# EAGLE library part LED-ARRAY-RTZ-2041 (library 1A-meinLib)
LED Array Typ RTZ 2041, 2mmLED, MENTOR
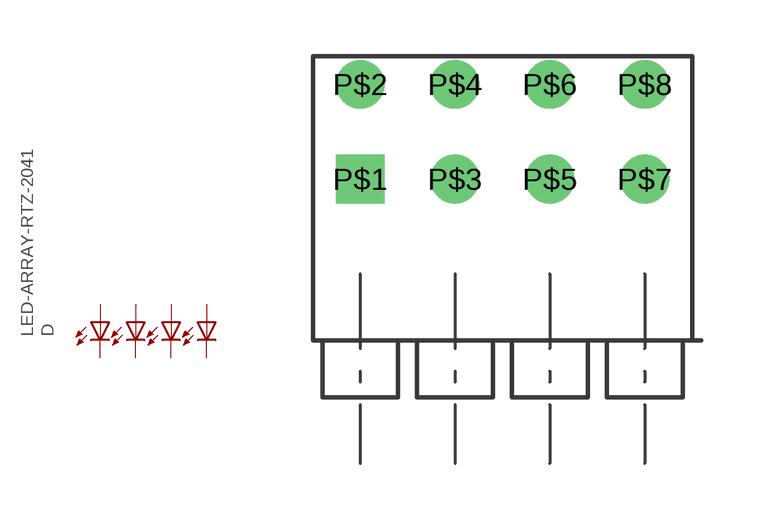
[diagram p102: symbol with the pads of LED-ARRAY-RTZ2041; footprint LED-ARRAY-RTZ2041]

Designator prefix D

## LED-ARRAY-RTZ-2041  [LED-ARRAY-RTZ2041]
P$1  K1  pas
P$2  A1  pas
P$3  K2  pas
P$4  A2  pas
P$5  K3  pas
P$6  A3  pas
P$7  K4  pas
P$8  A4  pas

## Footprint LED-ARRAY-RTZ2041 (pad centres in mm)
drill 0.8 square: P$1 0,0
drill 0.8 round: P$2 0,2.54; P$3 2.54,0; P$4 2.54,2.54; P$5 5.08,0; P$6 5.08,2.54; P$7 7.62,0; P$8 7.62,2.54